# Altium schematic symbol library tail lights.SchLib: 3 symbols
Pins are listed as number, name and electrical type; pins without a type are passive.

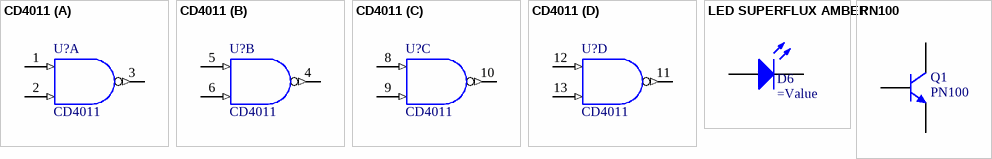
[diagram p0: symbols CD4011 to PN100]

## CD4011
designator U?
Quadruple 2-Input Positive-NAND Gate
footprint SOIC-14 (SOIC-14  NARROW BODY)
pins on every part: 7 VCC (power) hidden to VCC, 14 GND (power) hidden to VCC
part A pins: 1 A (in), 2 B (in), 3 Y (out)
part B pins: 4 Y (out), 5 A (in), 6 B (in)
part C pins: 8 A (in), 9 B (in), 10 Y (out)
part D pins: 11 Y (out), 12 A (in), 13 B (in)

## LED SUPERFLUX AMBER
designator D6
LED SUPERFLUX AMBER
pins: 1 A, 2 K

## PN100
designator Q1
NPN Bipolar Transistor; Revision: July-2002: Re-released for DXP Platform.; value: PN100
simulation model NPN
signal-integrity model NPN
footprint TO-92 (TO, Flat Index; 3 In-Line, Axial Leads; Body Dia. 4.6mm; Leads 0.41 x 0.39 mm (max))
pins: 1 E, 2 B, 3 C